# Altium schematic symbol library Schlib1.SchLib: 7 symbols
Pins are listed as number, name and electrical type; pins without a type are passive.

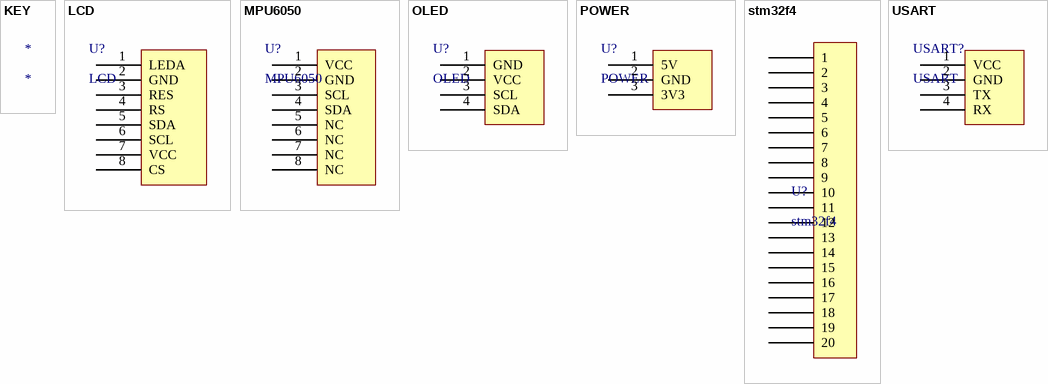
[diagram p0: symbols KEY to USART]

## KEY
designator *

## LCD
designator U?
屏幕接口
footprint FPC (U?)
pins: 1 LEDA, 2 GND, 3 RES, 4 RS, 5 SDA, 6 SCL, 7 VCC, 8 CS

## MPU6050
designator U?
陀螺仪
footprint 8PIN (U?)
pins: 1 VCC, 2 GND, 3 SCL, 4 SDA, 5 NC, 6 NC, 7 NC, 8 NC

## OLED
designator U?
footprint 4PIN
pins: 1 GND, 2 VCC, 3 SCL, 4 SDA

## POWER
designator U?
footprint 3PIN
pins: 1 5V, 2 GND, 3 3V3

## stm32f4
designator U?
footprint 20PIN (P?)
pins: 1, 2, 3, 4, 5, 6, 7, 8, 9, 10, 11, 12, 13, 14, 15, 16, 17, 18, 19, 20

## USART
designator USART?
footprint 4PIN
pins: 1 VCC (hiz), 2 GND (hiz), 3 TX (hiz), 4 RX (hiz)